# Altium schematic symbol library WX-220uF.Schlib: 1 symbol
Pins are listed as number, name and electrical type; pins without a type are passive.

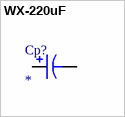
[diagram p0: symbol WX-220uF]

## WX-220uF
designator Cp?
Aluminum Electrolytic Capacitors
pins: 1, 2